# EAGLE library part PINHD-1X9 (library drazzy_pinhead)
PIN HEADER
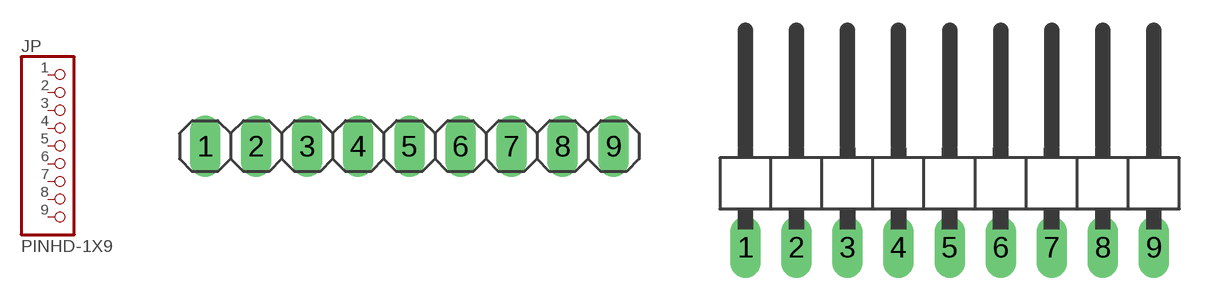
[diagram p3: symbol with the pads of 1X09; footprints 1X09, 1X09/90]

Designator prefix JP

## PINHD-1X9  [1X09]
1  1  pas
2  2  pas
3  3  pas
4  4  pas
5  5  pas
6  6  pas
7  7  pas
8  8  pas
9  9  pas

## PINHD-1X9/90  [1X09/90]
Pads as for 1X09

## PINHD-1X91X09_SMT  [1X09_SMT]
Pads as for 1X09

## Footprint 1X09 (pad centres in mm)
PIN HEADER
drill 1.016 long: 1 -10.16,0; 2 -7.62,0; 3 -5.08,0; 4 -2.54,0; 5 0,0; 6 2.54,0; 7 5.08,0; 8 7.62,0; 9 10.16,0

## Footprint 1X09/90 (pad centres in mm)
PIN HEADER
drill 1.016 long: 1 -10.16,-3.81; 2 -7.62,-3.81; 3 -5.08,-3.81; 4 -2.54,-3.81; 5 0,-3.81; 6 2.54,-3.81; 7 5.08,-3.81; 8 7.62,-3.81; 9 10.16,-3.81

## Footprint 1X09_SMT (pad centres in mm)
smd 1 x 2.5: 1 -10.16,1.52; 2 -7.62,-1.52; 3 -5.08,1.52; 4 -2.54,-1.52; 5 0,1.52; 6 2.54,-1.52; 7 5.08,1.52; 8 7.62,-1.52; 9 10.16,1.52